# Altium footprint library TO_Through.PcbLib: 17 footprints (part 2 of 2)
Each footprint in its own frame and in the unit in brackets; x right, y up, seen from the top. Pads: shape width x height; smd on the part's side, far side on the other; paste and mask are expansions set on the pad; w line width, h text height; cw(c..) or ccw(c..) is an arc to the next point about the centre after c.
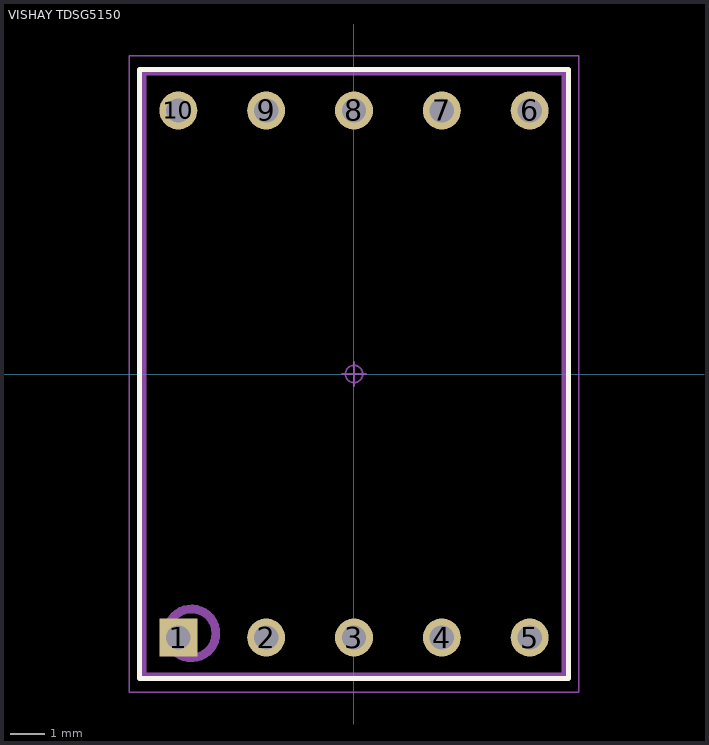
[diagram p1: the footprint, top view; thin cyan lines are the x and y axes]

## VISHAY TDSG5150 [mm] "VISHAY 7-digit display 13mm, Face Grey, Color Green"
height 7
pads (10):
  rect 1.1x1.1 / inner round 1.1 / far side rect 1.1x1.1 hole 0.7 paste+0: 1(-5.08,-7.62)
  round 1.1 hole 0.7 paste-2539.97: 2(-2.54,-7.62) 3(0,-7.62) 4(2.54,-7.62) 5(5.08,-7.62) 6(5.08,7.62) 7(2.54,7.62) 8(0,7.62) 9(-2.54,7.62) 10(-5.08,7.62)
Top Overlay:
  lines w0.15: -6.2,-8.8 6.2,-8.8 6.2,8.8 -6.2,8.8 -6.2,-8.8
Top Assembly:
  circle w0.25: c-4.7,-7.5 r0.707
  lines w0.25: -6.125,-8.75 6.125,-8.75 6.125,8.75 -6.125,8.75 -6.125,-8.75
  text ".Designator" at -3.378,-0.339 h1.5
Top Courtyard:
  circle w0.05: c0,0 r0.25
  lines w0.05: -0.35,0 0.35,0 ; 0,-0.35 0,0.35 ; -6.5,-9.2 6.5,-9.2 6.5,9.2 -6.5,9.2 -6.5,-9.2
3D body "TDSG5160_Green_segment_display_13mm.STEP": height 7.01, standoff -3.59, extent -6.125,-8.75 6.125,8.75